# Altium footprint library FUSE-TH_L22.6-W9.0.PcbLib: 1 footprints
Each footprint in its own frame and in the unit in brackets; x right, y up, seen from the top. Pads: shape width x height; smd on the part's side, far side on the other; paste and mask are expansions set on the pad; w line width, h text height; cw(c..) or ccw(c..) is an arc to the next point about the centre after c.
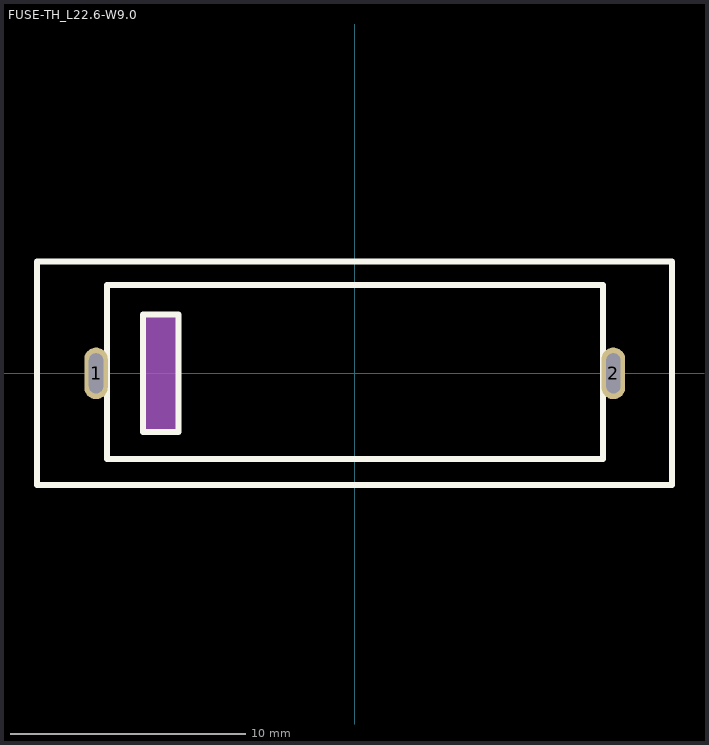
[diagram p0: the footprint, top view; thin cyan lines are the x and y axes]

## FUSE-TH_L22.6-W9.0 [mm]
pads (2):
  oval 1x2.2 hole 0.6 slot 1.7 at 90 deg paste+0 mask+0.05: 1(-11,0) 2(11,0)
Top Overlay:
  lines w0.254: -13.5,-4.75 13.5,-4.75 13.5,4.75 -13.5,4.75 -13.5,-4.75 ; -10.543,-3.649 -10.543,3.751 10.557,3.751 10.557,-3.649 -10.543,-3.649 ; -9,-2.5 -9,2.5 -7.5,2.5 -7.5,-2.5 -9,-2.5
Mechanical 6:
  region: -9,-2.5 -7.5,-2.5 -7.5,2.5 -9,2.5
Mechanical 15:
  region: -11.175,0.5 -10.825,0.5 -10.825,-0.5 -11.175,-0.5
  region: 10.825,0.5 11.175,0.5 11.175,-0.5 10.825,-0.5
  region: -13.44,-4.75 -13.44,-4.775 -13.475,-4.81 -13.525,-4.81 -13.56,-4.775 -13.56,-4.75 -13.56,-4.725 -13.525,-4.69 -13.475,-4.69 -13.44,-4.725 -13.44,-4.75
  lines w0.051: -13.5,-4.75 13.5,-4.75 13.5,4.75 -13.5,4.75 -13.5,-4.75